# Altium footprint library 2.03-TSSOP封装.PcbLib: 49 footprints (part 1 of 4)
Each footprint in its own frame and in the unit in brackets; x right, y up, seen from the top. Pads: shape width x height; smd on the part's side, far side on the other; paste and mask are expansions set on the pad; w line width, h text height; cw(c..) or ccw(c..) is an arc to the next point about the centre after c.
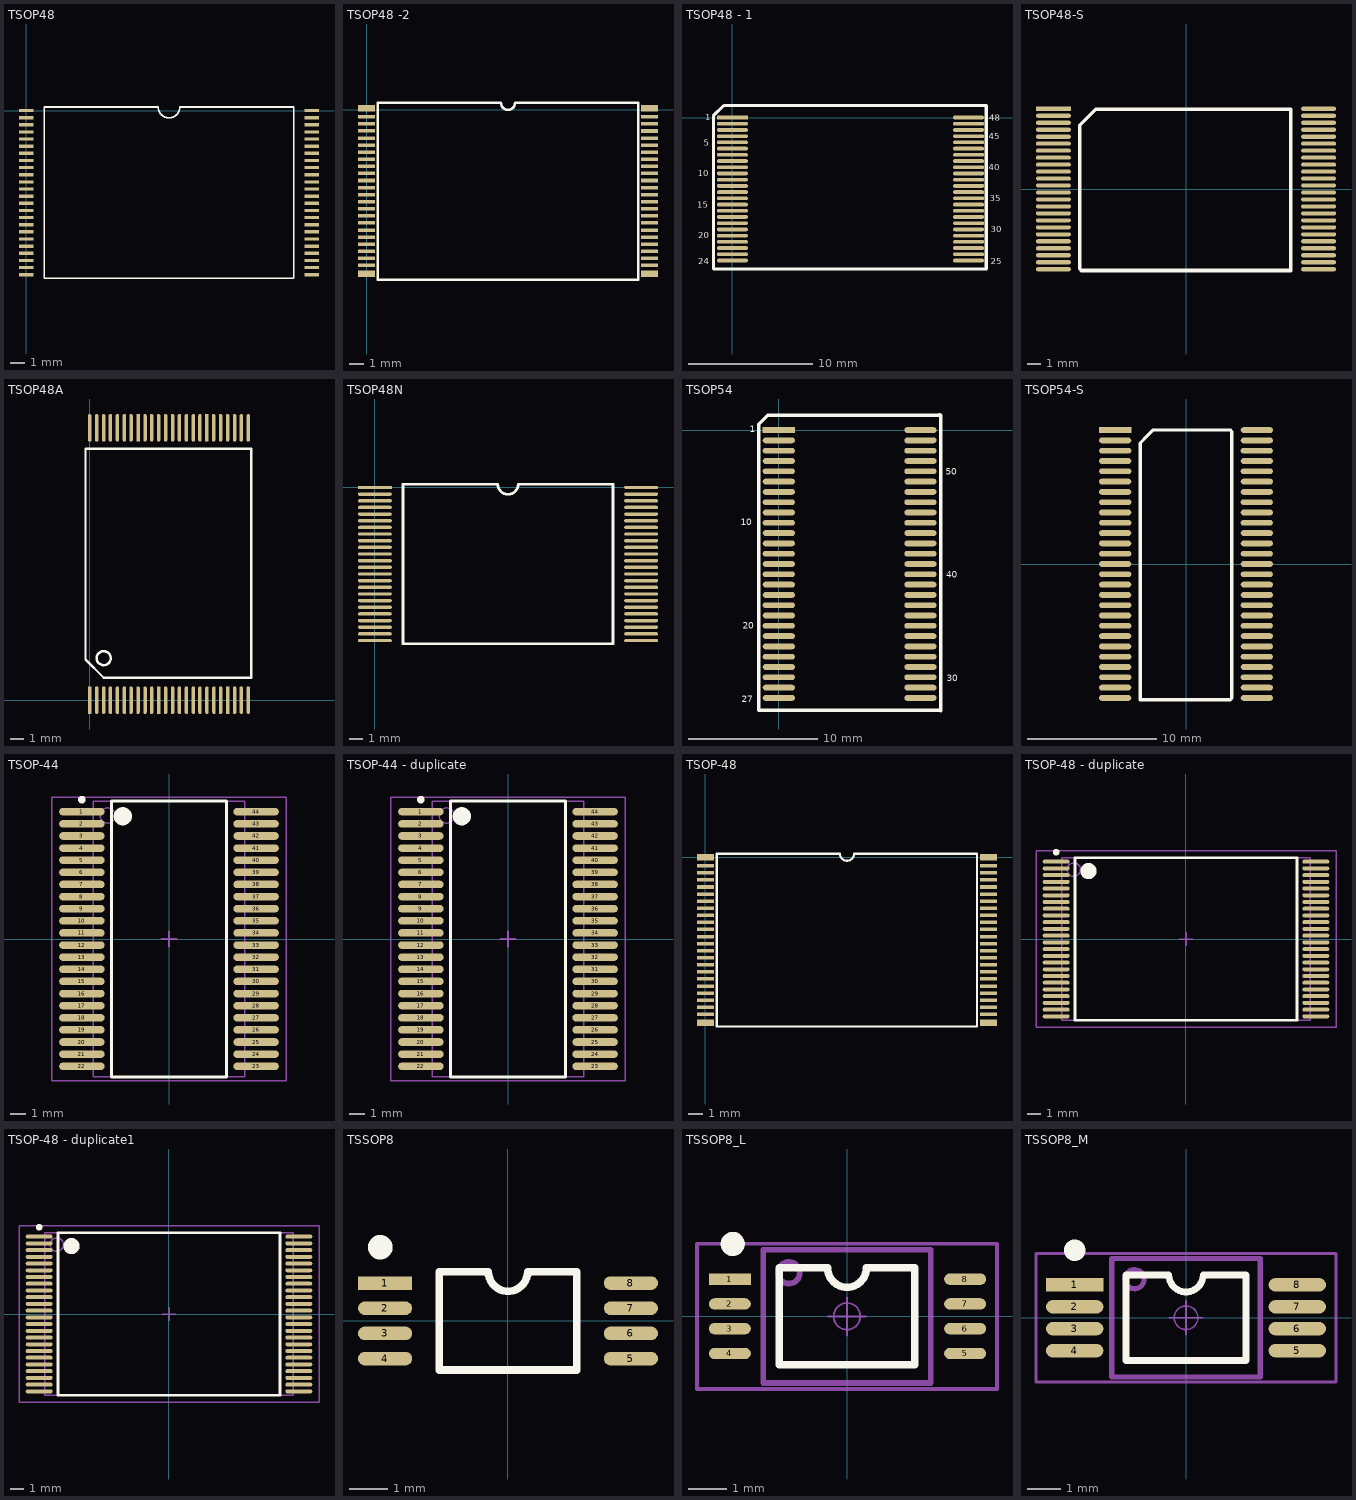
[diagram p0: the footprints below, top view; thin cyan lines are the x and y axes]

## TSOP48 [mil]
pads (48):
  rect 40x9 smd: 1(0,0) 2(0,-19.68) 3(0,-39.37) 4(0,-59.05) 5(0,-78.74) 6(0,-98.43) 7(0,-118.11) 8(0,-137.8) 9(0,-157.48) 10(0,-177.17) 11(0,-196.85) 12(0,-216.54) 13(0,-236.22) 14(0,-255.91) 15(0,-275.59) 16(0,-295.28) 17(0,-314.96) 18(0,-334.65) 19(0,-354.33) 20(0,-374.02) 21(0,-393.7) 22(0,-413.39) 23(0,-433.07) 24(0,-452.76) 25(787.4,-452.76) 26(787.4,-433.07) 27(787.4,-413.39) 28(787.4,-393.7) 29(787.4,-374.02) 30(787.4,-354.33) 31(787.4,-334.65) 32(787.4,-314.96) 33(787.4,-295.28) 34(787.4,-275.59) 35(787.4,-255.91) 36(787.4,-236.22) 37(787.4,-216.54) 38(787.4,-196.85) 39(787.4,-177.17) 40(787.4,-157.48) 41(787.4,-137.8) 42(787.4,-118.11) 43(787.4,-98.43) 44(787.4,-78.74) 45(787.4,-59.05) 46(787.4,-39.37) 47(787.4,-19.68) 48(787.4,0)
Top Overlay:
  lines w5: 49.69,-462.6 737.72,-462.6 737.72,9.84 423.7,9.84 cw(c393.7,9.84) 363.7,9.84 49.69,9.84 49.69,-462.6

## TSOP48 -2 [mm]
pads (48):
  rect 1.2x0.45 smd: 1(-0.021,0.108) 24(-0.021,-11.592) 25(19.979,-11.592) 48(19.979,0.108)
  rect 1.2x0.25 smd: 2(-0.021,-0.492) 3(-0.021,-0.992) 4(-0.021,-1.492) 5(-0.021,-1.992) 6(-0.021,-2.492) 7(-0.021,-2.992) 8(-0.021,-3.492) 9(-0.021,-3.992) 10(-0.021,-4.492) 11(-0.021,-4.992) 12(-0.021,-5.492) 13(-0.021,-5.992) 14(-0.021,-6.492) 15(-0.021,-6.992) 16(-0.021,-7.492) 17(-0.021,-7.992) 18(-0.021,-8.492) 19(-0.021,-8.992) 20(-0.021,-9.492) 21(-0.021,-9.992) 22(-0.021,-10.492) 23(-0.021,-10.992) 26(19.979,-10.992) 27(19.979,-10.492) 28(19.979,-9.992) 29(19.979,-9.492) 30(19.979,-8.992) 31(19.979,-8.492) 32(19.979,-7.992) 33(19.979,-7.492) 34(19.979,-6.992) 35(19.979,-6.492) 36(19.979,-5.992) 37(19.979,-5.492) 38(19.979,-4.992) 39(19.979,-4.492) 40(19.979,-3.992) 41(19.979,-3.492) 42(19.979,-2.992) 43(19.979,-2.492) 44(19.979,-1.992) 45(19.979,-1.492) 46(19.979,-0.992) 47(19.979,-0.492)
Top Overlay:
  lines w0.178: 0.779,-11.992 19.179,-11.992 19.179,0.508 10.479,0.508 cw(c9.979,0.508) 9.479,0.508 0.779,0.508 0.779,-11.992

## TSOP48 - 1 [mm]
pads (48):
  rect 2.5x0.3 smd: 1(0,0)
  oval 2.5x0.3 smd: 2(0,-0.5) 3(0,-1) 4(0,-1.5) 5(0,-2) 6(0,-2.5) 7(0,-3) 8(0,-3.5) 9(0,-4) 10(0,-4.5) 11(0,-5) 12(0,-5.5) 13(0,-6) 14(0,-6.5) 15(0,-7) 16(0,-7.5) 17(0,-8) 18(0,-8.5) 19(0,-9) 20(0,-9.5) 21(0,-10) 22(0,-10.5) 23(0,-11) 24(0,-11.5) 25(19,-11.5) 26(19,-11) 27(19,-10.5) 28(19,-10) 29(19,-9.5) 30(19,-9) 31(19,-8.5) 32(19,-8) 33(19,-7.5) 34(19,-7) 35(19,-6.5) 36(19,-6) 37(19,-5.5) 38(19,-5) 39(19,-4.5) 40(19,-4) 41(19,-3.5) 42(19,-3) 43(19,-2.5) 44(19,-2) 45(19,-1.5) 46(19,-1) 47(19,-0.5) 48(19,0)
Top Overlay:
  lines w0.254: -1.524,-12.192 -1.524,0.127 -0.686,0.965 20.422,0.965 20.422,-12.192 20.244,-12.192 -1.524,-12.192
  text "1" at -2.184,-0.203 h0.51
  text "5" at -2.311,-2.286 h0.51
  text "10" at -2.769,-4.724 h0.51
  text "15" at -2.845,-7.264 h0.51
  text "20" at -2.743,-9.728 h0.51
  text "24" at -2.743,-11.811 h0.51
  text "25" at 20.777,-11.786 h0.51
  text "30" at 20.777,-9.22 h0.51
  text "35" at 20.701,-6.731 h0.51
  text "40" at 20.625,-4.242 h0.51
  text "48" at 20.676,-0.254 h0.51
  text "45" at 20.625,-1.753 h0.51

## TSOP48-S [mm]
pads (48):
  rect 2.5x0.3 smd: 1(-9.5,5.75)
  oval 2.5x0.3 smd: 2(-9.5,5.25) 3(-9.5,4.75) 4(-9.5,4.25) 5(-9.5,3.75) 6(-9.5,3.25) 7(-9.5,2.75) 8(-9.5,2.25) 9(-9.5,1.75) 10(-9.5,1.25) 11(-9.5,0.75) 12(-9.5,0.25) 13(-9.5,-0.25) 14(-9.5,-0.75) 15(-9.5,-1.25) 16(-9.5,-1.75) 17(-9.5,-2.25) 18(-9.5,-2.75) 19(-9.5,-3.25) 20(-9.5,-3.75) 21(-9.5,-4.25) 22(-9.5,-4.75) 23(-9.5,-5.25) 24(-9.5,-5.75) 25(9.5,-5.75) 26(9.5,-5.25) 27(9.5,-4.75) 28(9.5,-4.25) 29(9.5,-3.75) 30(9.5,-3.25) 31(9.5,-2.75) 32(9.5,-2.25) 33(9.5,-1.75) 34(9.5,-1.25) 35(9.5,-0.75) 36(9.5,-0.25) 37(9.5,0.25) 38(9.5,0.75) 39(9.5,1.25) 40(9.5,1.75) 41(9.5,2.25) 42(9.5,2.75) 43(9.5,3.25) 44(9.5,3.75) 45(9.5,4.25) 46(9.5,4.75) 47(9.5,5.25) 48(9.5,5.75)
Top Overlay:
  lines w0.254: -6.35,5.715 7.493,5.715 7.493,-5.842 -7.493,-5.842 -7.62,-5.715 -7.62,4.572 -6.477,5.715 -5.969,5.715

## TSOP48A [mil]
pads (48):
  rect 10x79 smd: 1(0,0) 11(197,0.02) 21(394,0.02) 31(335,778) 41(138,778.02)
  oval 10x79 smd: 2(20,0.02) 3(40,0.02) 4(59,0.02) 5(79,0.02) 6(99,0.02) 7(118,0.02) 8(138,0.02) 9(158,0.02) 10(177,0) 12(217,0.02) 13(237,0.02) 14(256,0.02) 15(276,0.02) 16(296,0.02) 17(315,0.02) 18(335,0.02) 19(355,0.02) 20(374,0) 22(414,0.02) 23(433,0.02) 24(453,0.02) 25(453,778.02) 26(433,778.02) 27(414,778.02) 28(394,778.02) 29(374,778) 30(354,778) 32(315,778.02) 33(296,778.02) 34(276,778.02) 35(256,778.02) 36(237,778.02) 37(217,778.02) 38(197,778.02) 39(177,778.02) 40(158,778) 42(118,778.02) 43(99,778.02) 44(79,778.02) 45(59,778.02) 46(40,778.02) 47(20,778.02) 48(0,778.02)
Top Overlay:
  circle w7: c40,120 r20
  lines w7: -12,116.02 -12,718.02 461,718.02 461,64.02 40,64.02 -12,116.02

## TSOP48N [mil]
pads (48):
  rect 100x10 smd: 1(0.09,-0.33)
  oval 100x10 smd: 2(0.09,-20.02) 3(0.09,-39.7) 4(0.09,-59.39) 5(0.09,-79.07) 6(0.09,-98.76) 7(0.09,-118.44) 8(0.09,-138.13) 9(0.09,-157.81) 10(0.09,-177.5) 11(0.09,-197.18) 12(0.09,-216.87) 13(0.09,-236.55) 14(0.09,-256.24) 15(0.09,-275.92) 16(0.09,-295.61) 17(0.09,-315.29) 18(0.09,-334.98) 19(0.09,-354.66) 20(0.09,-374.35) 21(0.09,-394.03) 22(0.09,-413.72) 23(0.09,-433.4) 24(0.09,-453.09) 25(787.5,-453.09) 26(787.5,-433.4) 27(787.5,-413.72) 28(787.5,-394.03) 29(787.5,-374.35) 30(787.5,-354.66) 31(787.5,-334.98) 32(787.5,-315.29) 33(787.5,-295.61) 34(787.5,-275.92) 35(787.5,-256.24) 36(787.5,-236.55) 37(787.5,-216.87) 38(787.5,-197.18) 39(787.5,-177.5) 40(787.5,-157.81) 41(787.5,-138.13) 42(787.5,-118.44) 43(787.5,-98.76) 44(787.5,-79.07) 45(787.5,-59.39) 46(787.5,-39.7) 47(787.5,-20.02) 48(787.5,-0.33)
Top Overlay:
  lines w7.87: 82.97,-462.93 704.62,-462.93 704.62,9.51 423.95,9.51 cw(c393.8,9.51) 363.64,9.51 82.97,9.51 82.97,-462.93

## TSOP54 [mm]
pads (54):
  rect 2.5x0.45 smd: 1(0,0)
  oval 2.5x0.45 smd: 2(0,-0.8) 3(0,-1.6) 4(0,-2.4) 5(0,-3.2) 6(0,-4) 7(0,-4.8) 8(0,-5.6) 9(0,-6.4) 10(0,-7.2) 11(0,-8) 12(0,-8.8) 13(0,-9.6) 14(0,-10.4) 15(0,-11.2) 16(0,-12) 17(0,-12.8) 18(0,-13.6) 19(0,-14.4) 20(0,-15.2) 21(0,-16) 22(0,-16.8) 23(0,-17.6) 24(0,-18.4) 25(0,-19.2) 26(0,-20) 27(0,-20.8) 28(11,-20.8) 29(11,-20) 30(11,-19.2) 31(11,-18.4) 32(11,-17.6) 33(11,-16.8) 34(11,-16) 35(11,-15.2) 36(11,-14.4) 37(11,-13.6) 38(11,-12.8) 39(11,-12) 40(11,-11.2) 41(11,-10.4) 42(11,-9.6) 43(11,-8.8) 44(11,-8) 45(11,-7.2) 46(11,-6.4) 47(11,-5.6) 48(11,-4.8) 49(11,-4) 50(11,-3.2) 51(11,-2.4) 52(11,-1.6) 53(11,-0.8) 54(11,0)
Top Overlay:
  lines w0.254: 12.497,-21.768 -1.549,-21.768 -1.549,0.457 -0.864,1.143 12.421,1.143 12.497,1.219 ; 12.573,-21.819 12.573,1.168
  text "27" at -2.87,-21.133 h0.51
  text "20" at -2.819,-15.443 h0.51
  text "10" at -2.946,-7.391 h0.51
  text "1" at -2.261,-0.152 h0.51
  text "30" at 13.03,-19.507 h0.51
  text "40" at 13.005,-11.481 h0.51
  text "50" at 12.954,-3.454 h0.51

## TSOP54-S [mm]
pads (54):
  rect 2.5x0.45 smd: 1(-5.5,10.4)
  oval 2.5x0.45 smd: 2(-5.5,9.6) 3(-5.5,8.8) 4(-5.5,8) 5(-5.5,7.2) 6(-5.5,6.4) 7(-5.5,5.6) 8(-5.5,4.8) 9(-5.5,4) 10(-5.5,3.2) 11(-5.5,2.4) 12(-5.5,1.6) 13(-5.5,0.8) 14(-5.5,0) 15(-5.5,-0.8) 16(-5.5,-1.6) 17(-5.5,-2.4) 18(-5.5,-3.2) 19(-5.5,-4) 20(-5.5,-4.8) 21(-5.5,-5.6) 22(-5.5,-6.4) 23(-5.5,-7.2) 24(-5.5,-8) 25(-5.5,-8.8) 26(-5.5,-9.6) 27(-5.5,-10.4) 28(5.5,-10.4) 29(5.5,-9.6) 30(5.5,-8.8) 31(5.5,-8) 32(5.5,-7.2) 33(5.5,-6.4) 34(5.5,-5.6) 35(5.5,-4.8) 36(5.5,-4) 37(5.5,-3.2) 38(5.5,-2.4) 39(5.5,-1.6) 40(5.5,-0.8) 41(5.5,0) 42(5.5,0.8) 43(5.5,1.6) 44(5.5,2.4) 45(5.5,3.2) 46(5.5,4) 47(5.5,4.8) 48(5.5,5.6) 49(5.5,6.4) 50(5.5,7.2) 51(5.5,8) 52(5.5,8.8) 53(5.5,9.6) 54(5.5,10.4)
Top Overlay:
  lines w0.254: -3.556,-10.541 -3.556,9.398 -2.921,10.033 -2.54,10.414 3.429,10.414 3.556,10.287 3.556,-10.414 3.429,-10.541 -3.556,-10.541

## TSOP-44 [mm] "TSOP"
height 1.2
pads (44):
  oval 3x0.5 smd: 1(-5.75,8.4) 2(-5.75,7.6) 3(-5.75,6.8) 4(-5.75,6) 5(-5.75,5.2) 6(-5.75,4.4) 7(-5.75,3.6) 8(-5.75,2.8) 9(-5.75,2) 10(-5.75,1.2) 11(-5.75,0.4) 12(-5.75,-0.4) 13(-5.75,-1.2) 14(-5.75,-2) 15(-5.75,-2.8) 16(-5.75,-3.6) 17(-5.75,-4.4) 18(-5.75,-5.2) 19(-5.75,-6) 20(-5.75,-6.8) 21(-5.75,-7.6) 22(-5.75,-8.4) 23(5.75,-8.4) 24(5.75,-7.6) 25(5.75,-6.8) 26(5.75,-6) 27(5.75,-5.2) 28(5.75,-4.4) 29(5.75,-3.6) 30(5.75,-2.8) 31(5.75,-2) 32(5.75,-1.2) 33(5.75,-0.4) 34(5.75,0.4) 35(5.75,1.2) 36(5.75,2) 37(5.75,2.8) 38(5.75,3.6) 39(5.75,4.4) 40(5.75,5.2) 41(5.75,6) 42(5.75,6.8) 43(5.75,7.6) 44(5.75,8.4)
Top Overlay:
  circle w0.6: c-3.05,8.1 r0.3
  circle w0.25: c-5.75,9.2 r0.125
  lines w0.2: -3.81,-9.1 3.81,-9.1 3.81,9.1 -3.81,9.1 -3.81,-9.1
Mechanical 13:
  circle w0.1: c-4.05,8.15 r0.5
  lines w0.1: -5,-9.1 5,-9.1 5,9.1 -5,9.1 -5,-9.1
Mechanical 15:
  lines w0.1: -0.5,0 0.5,0 ; 0,-0.5 0,0.5 ; -7.747,-9.35 7.747,-9.35 7.747,9.35 -7.747,9.35 -7.747,-9.35
3D body: height 1.2, standoff 0.2, extent -5,-9.1 5,9.1

## TSOP-44 - duplicate [mm] "TSOP"
height 1.2
pads (44):
  oval 3x0.5 smd: 1(-5.75,8.4) 2(-5.75,7.6) 3(-5.75,6.8) 4(-5.75,6) 5(-5.75,5.2) 6(-5.75,4.4) 7(-5.75,3.6) 8(-5.75,2.8) 9(-5.75,2) 10(-5.75,1.2) 11(-5.75,0.4) 12(-5.75,-0.4) 13(-5.75,-1.2) 14(-5.75,-2) 15(-5.75,-2.8) 16(-5.75,-3.6) 17(-5.75,-4.4) 18(-5.75,-5.2) 19(-5.75,-6) 20(-5.75,-6.8) 21(-5.75,-7.6) 22(-5.75,-8.4) 23(5.75,-8.4) 24(5.75,-7.6) 25(5.75,-6.8) 26(5.75,-6) 27(5.75,-5.2) 28(5.75,-4.4) 29(5.75,-3.6) 30(5.75,-2.8) 31(5.75,-2) 32(5.75,-1.2) 33(5.75,-0.4) 34(5.75,0.4) 35(5.75,1.2) 36(5.75,2) 37(5.75,2.8) 38(5.75,3.6) 39(5.75,4.4) 40(5.75,5.2) 41(5.75,6) 42(5.75,6.8) 43(5.75,7.6) 44(5.75,8.4)
Top Overlay:
  circle w0.25: c-5.75,9.2 r0.125
  circle w0.6: c-3.05,8.1 r0.3
  lines w0.2: -3.81,-9.1 -3.81,9.1 3.81,9.1 3.81,-9.1 -3.81,-9.1
Mechanical 13:
  circle w0.1: c-4.05,8.15 r0.5
  lines w0.1: -5,-9.1 -5,9.1 5,9.1 5,-9.1 -5,-9.1
Mechanical 15:
  lines w0.1: -0.5,0 0.5,0 ; 0,-0.5 0,0.5 ; -7.747,-9.35 -7.747,9.35 7.747,9.35 7.747,-9.35 -7.747,-9.35
3D body: height 1.2, standoff 0.2, extent -5,-9.1 5,9.1

## TSOP-48 [mm] "淘宝ID:黄晶宝石"
pads (48):
  rect 1.2x0.45 smd: 1(0,0) 24(0,-11.7) 25(20,-11.7) 48(20,0)
  rect 1.2x0.25 smd: 2(0,-0.6) 3(0,-1.1) 4(0,-1.6) 5(0,-2.1) 6(0,-2.6) 7(0,-3.1) 8(0,-3.6) 9(0,-4.1) 10(0,-4.6) 11(0,-5.1) 12(0,-5.6) 13(0,-6.1) 14(0,-6.6) 15(0,-7.1) 16(0,-7.6) 17(0,-8.1) 18(0,-8.6) 19(0,-9.1) 20(0,-9.6) 21(0,-10.1) 22(0,-10.6) 23(0,-11.1) 26(20,-11.1) 27(20,-10.6) 28(20,-10.1) 29(20,-9.6) 30(20,-9.1) 31(20,-8.6) 32(20,-8.1) 33(20,-7.6) 34(20,-7.1) 35(20,-6.6) 36(20,-6.1) 37(20,-5.6) 38(20,-5.1) 39(20,-4.6) 40(20,-4.1) 41(20,-3.6) 42(20,-3.1) 43(20,-2.6) 44(20,-2.1) 45(20,-1.6) 46(20,-1.1) 47(20,-0.6)
Top Overlay:
  lines w0.15: 0.8,-11.95 19.2,-11.95 19.2,0.25 10.5,0.25 cw(c10,0.25) 9.5,0.25 0.8,0.25 0.8,-11.95
3D body "User Library-TSOP48.step": height 1.25, standoff -0.01, extent -0.05,-11.9 20.05,0.2

## TSOP-48 - duplicate [mm]
height 1.2
pads (48):
  oval 2x0.3 smd: 1(-9.65,5.75) 2(-9.65,5.25) 3(-9.65,4.75) 4(-9.65,4.25) 5(-9.65,3.75) 6(-9.65,3.25) 7(-9.65,2.75) 8(-9.65,2.25) 9(-9.65,1.75) 10(-9.65,1.25) 11(-9.65,0.75) 12(-9.65,0.25) 13(-9.65,-0.25) 14(-9.65,-0.75) 15(-9.65,-1.25) 16(-9.65,-1.75) 17(-9.65,-2.25) 18(-9.65,-2.75) 19(-9.65,-3.25) 20(-9.65,-3.75) 21(-9.65,-4.25) 22(-9.65,-4.75) 23(-9.65,-5.25) 24(-9.65,-5.75) 25(9.65,-5.75) 26(9.65,-5.25) 27(9.65,-4.75) 28(9.65,-4.25) 29(9.65,-3.75) 30(9.65,-3.25) 31(9.65,-2.75) 32(9.65,-2.25) 33(9.65,-1.75) 34(9.65,-1.25) 35(9.65,-0.75) 36(9.65,-0.25) 37(9.65,0.25) 38(9.65,0.75) 39(9.65,1.25) 40(9.65,1.75) 41(9.65,2.25) 42(9.65,2.75) 43(9.65,3.25) 44(9.65,3.75) 45(9.65,4.25) 46(9.65,4.75) 47(9.65,5.25) 48(9.65,5.75)
Top Overlay:
  circle w0.6: c-7.25,5.05 r0.3
  circle w0.25: c-9.65,6.45 r0.125
  lines w0.2: -8.25,-6.05 8.25,-6.05 8.25,6.05 -8.25,6.05 -8.25,-6.05
Mechanical 13:
  circle w0.1: c-8.35,5.15 r0.5
  lines w0.1: -9.25,-6.05 9.25,-6.05 9.25,6.05 -9.25,6.05 -9.25,-6.05
Mechanical 15:
  lines w0.1: -0.5,0 0.5,0 ; 0,-0.5 0,0.5 ; -11.15,-6.55 11.15,-6.55 11.15,6.55 -11.15,6.55 -11.15,-6.55
3D body: height 1.2, standoff 0, extent -9.25,-6.05 9.25,6.05

## TSOP-48 - duplicate1 [mm]
height 1.2
pads (48):
  oval 2x0.3 smd: 1(-9.65,5.75) 2(-9.65,5.25) 3(-9.65,4.75) 4(-9.65,4.25) 5(-9.65,3.75) 6(-9.65,3.25) 7(-9.65,2.75) 8(-9.65,2.25) 9(-9.65,1.75) 10(-9.65,1.25) 11(-9.65,0.75) 12(-9.65,0.25) 13(-9.65,-0.25) 14(-9.65,-0.75) 15(-9.65,-1.25) 16(-9.65,-1.75) 17(-9.65,-2.25) 18(-9.65,-2.75) 19(-9.65,-3.25) 20(-9.65,-3.75) 21(-9.65,-4.25) 22(-9.65,-4.75) 23(-9.65,-5.25) 24(-9.65,-5.75) 25(9.65,-5.75) 26(9.65,-5.25) 27(9.65,-4.75) 28(9.65,-4.25) 29(9.65,-3.75) 30(9.65,-3.25) 31(9.65,-2.75) 32(9.65,-2.25) 33(9.65,-1.75) 34(9.65,-1.25) 35(9.65,-0.75) 36(9.65,-0.25) 37(9.65,0.25) 38(9.65,0.75) 39(9.65,1.25) 40(9.65,1.75) 41(9.65,2.25) 42(9.65,2.75) 43(9.65,3.25) 44(9.65,3.75) 45(9.65,4.25) 46(9.65,4.75) 47(9.65,5.25) 48(9.65,5.75)
Top Overlay:
  circle w0.25: c-9.65,6.45 r0.125
  circle w0.6: c-7.25,5.05 r0.3
  lines w0.2: -8.25,-6.05 -8.25,6.05 8.25,6.05 8.25,-6.05 -8.25,-6.05
Mechanical 13:
  circle w0.1: c-8.35,5.15 r0.5
  lines w0.1: -9.25,-6.05 -9.25,6.05 9.25,6.05 9.25,-6.05 -9.25,-6.05
Mechanical 15:
  lines w0.1: -0.5,0 0.5,0 ; 0,-0.5 0,0.5 ; -11.15,-6.55 -11.15,6.55 11.15,6.55 11.15,-6.55 -11.15,-6.55
3D body: height 1.2, standoff 0, extent -9.25,-6.05 9.25,6.05

## TSSOP8 [mm] "3*6.4*1.2mm 封装库来自淘宝卖家 ID：黄晶宝石"
pads (8):
  rect 1.4x0.35 smd: 1(-3.175,0.975)
  oval 1.4x0.35 smd: 2(-3.175,0.325) 3(-3.175,-0.325) 4(-3.175,-0.975) 5(3.175,-0.975) 6(3.175,-0.325) 7(3.175,0.325) 8(3.175,0.975)
Top Overlay:
  circle w0.381: c-3.3,1.9 r0.127
  lines w0.2: -1.778,-1.27 1.778,-1.27 1.778,1.27 0.508,1.27 cw(c0,1.27) -0.508,1.27 -1.778,1.27 -1.778,-1.27
3D body "User Library-TSS0P8.STEP": height 1.09, standoff 0, extent -3.112,-1.59 3.168,1.41

## TSSOP8_L [mm] "3*6.4*1.2mm（长宽高） 封装库来自淘宝卖家 ID：黄晶宝石"
pads (8):
  rect 1.1x0.3 smd: 1(-3.087,0.975)
  oval 1.1x0.3 smd: 2(-3.087,0.325) 3(-3.087,-0.325) 4(-3.087,-0.975) 5(3.087,-0.975) 6(3.087,-0.325) 7(3.087,0.325) 8(3.087,0.975)
Top Overlay:
  circle w0.381: c-3.012,1.9 r0.127
  lines w0.2: -1.79,-1.27 -1.79,1.27 -0.52,1.27 ccw(c-0.012,1.27) 0.496,1.27 1.766,1.27 1.766,-1.27 -1.79,-1.27
Mechanical 13:
  circle w0.15: c-1.536,1.143 r0.284
  lines w0.15: -2.213,-1.75 -2.213,1.75 2.188,1.75 2.188,-1.75 -2.213,-1.75
Mechanical 15:
  circle w0.05: c-0.012,0 r0.35
  lines w0.05: -0.512,0 0.487,0 ; -0.012,-0.5 -0.012,0.5
  lines w0.1: -3.949,-1.905 3.925,-1.905 3.925,1.905 -3.949,1.905 -3.949,-1.905
3D body "User Library-TSS0P8.STEP": height 1.09, standoff 0, extent -3.099,-1.59 3.181,1.41

## TSSOP8_M [mm] "3*6.4*1.2mm（长宽高）   封装库来自淘宝卖家 ID：黄晶宝石"
pads (8):
  rect 1.7x0.4 smd: 1(-3.3,0.975)
  oval 1.7x0.4 smd: 2(-3.3,0.325) 3(-3.3,-0.325) 4(-3.3,-0.975) 5(3.3,-0.975) 6(3.3,-0.325) 7(3.3,0.325) 8(3.3,0.975)
Top Overlay:
  circle w0.381: c-3.3,2 r0.127
  lines w0.2: -1.778,-1.27 -1.778,1.27 -0.508,1.27 ccw(c0,1.27) 0.508,1.27 1.778,1.27 1.778,-1.27 -1.778,-1.27
Mechanical 13:
  circle w0.15: c-1.524,1.143 r0.284
  lines w0.15: -2.2,-1.75 2.2,-1.75 2.2,1.75 -2.2,1.75 -2.2,-1.75
Mechanical 15:
  circle w0.05: c0,0 r0.35
  lines w0.05: -0.5,0 0.5,0 ; 0,-0.5 0,0.5
  lines w0.1: -4.445,-1.905 4.445,-1.905 4.445,1.905 -4.445,1.905 -4.445,-1.905
3D body "User Library-TSS0P8.STEP": height 1.09, standoff 0, extent -3.188,-1.565 3.092,1.435